# Altium footprint library SON-8_3.3x3.3mm.PcbLib: 1 footprints
Each footprint in its own frame and in the unit in brackets; x right, y up, seen from the top. Pads: shape width x height; smd on the part's side, far side on the other; paste and mask are expansions set on the pad; w line width, h text height; cw(c..) or ccw(c..) is an arc to the next point about the centre after c.
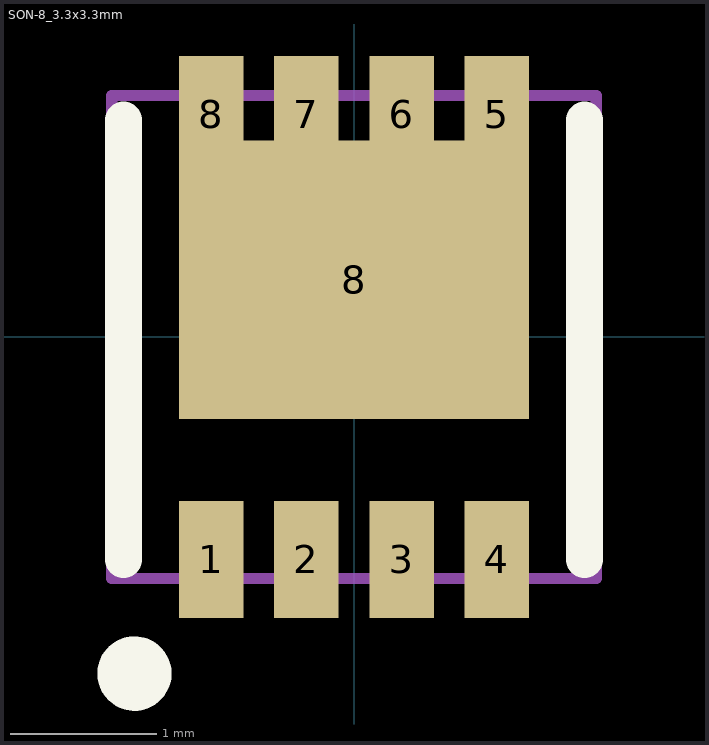
[diagram p0: the footprint, top view; thin cyan lines are the x and y axes]

## SON-8_3.3x3.3mm [mm]
pads (9):
  rect 0.44x0.8 smd mask+0.051: 1(-0.975,-1.52) 2(-0.325,-1.52) 3(0.325,-1.52) 4(0.975,-1.52) 5(0.975,1.52) 6(0.325,1.52) 7(-0.325,1.52) 8(-0.975,1.52)
  rect 2.39x1.9 smd mask+0.051: 8(0,0.39)
Top Overlay:
  circle w0.254: c-1.5,-2.3 r0.127
  lines w0.254: -1.575,-1.52 -1.575,1.48 ; 1.575,-1.52 1.575,1.48
Mechanical 13:
  lines w0.076: -1.655,-1.65 1.655,-1.65 1.655,1.65 -1.655,1.65 -1.655,-1.65